# Altium schematic symbol library Schlib.SchLib: 5 symbols
Pins are listed as number, name and electrical type; pins without a type are passive.

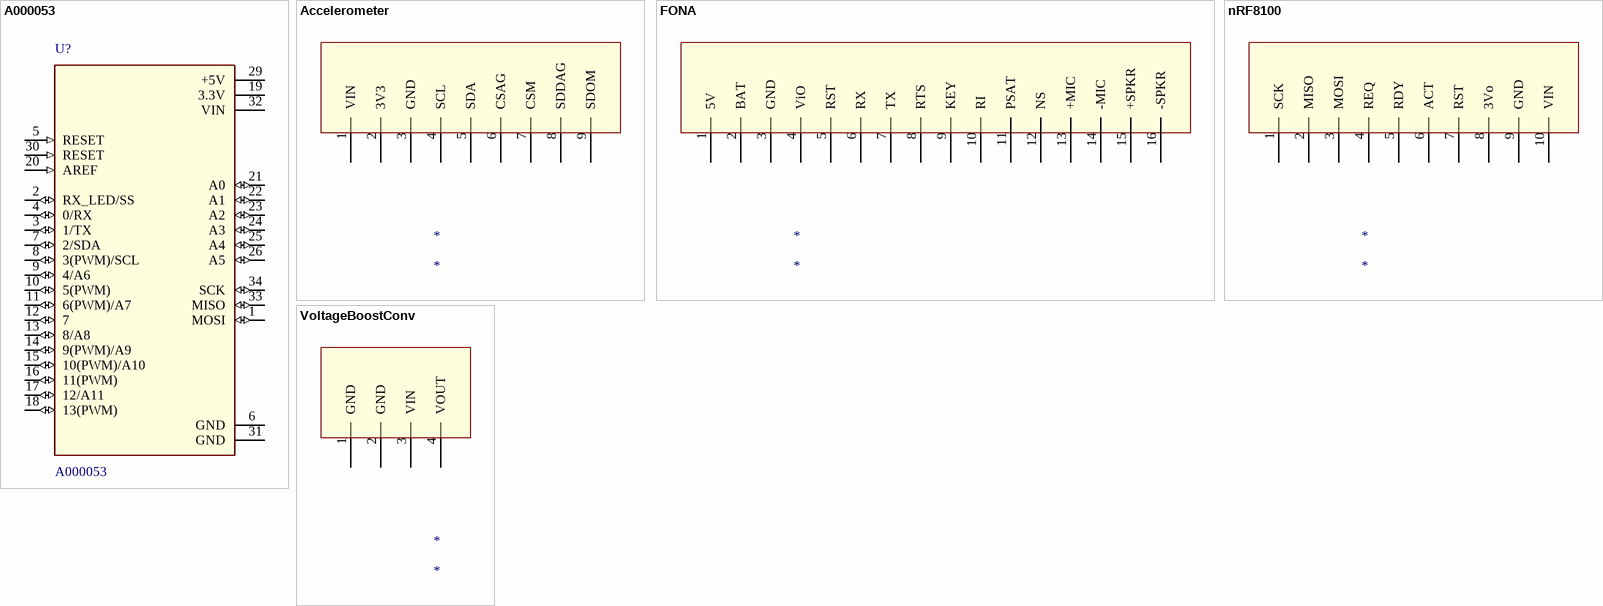
[diagram p0: symbols A000053 to VoltageBoostConv]

## A000053
designator U?
MCU, ARDUINO MICRO, LEONARDO BASED, ATMEGA32u4, 5V, USB-MICRO; Availability: Unavailable; Price: None; SnapEDA_Link: https://www.snapeda.com/parts/A000053/Arduino/view-part/?ref=snap; MF: Arduino; MP: A000053; Package: None; Value: *
footprint *ARDUINO_A000053
pins: 1 MOSI (io), 2 RX_LED/SS (io), 3 1/TX (io), 4 0/RX (io), 5 RESET (in), 6 GND (power), 7 2/SDA (io), 8 3(PWM)/SCL (io), 9 4/A6 (io), 10 5(PWM) (io), 11 6(PWM)/A7 (io), 12 7 (io), 13 8/A8 (io), 14 9(PWM)/A9 (io), 15 10(PWM)/A10 (io), 16 11(PWM) (io), 17 12/A11 (io), 18 13(PWM) (io), 19 3.3V (power), 20 AREF (in), 21 A0 (io), 22 A1 (io), 23 A2 (io), 24 A3 (io), 25 A4 (io), 26 A5 (io), 29 +5V (power), 30 RESET (in), 31 GND (power), 32 VIN (power), 33 MISO (io), 34 SCK (io)

## Accelerometer
designator *
Accelerometer
footprint LSM9DS1
pins: 1 VIN, 2 3V3, 3 GND, 4 SCL, 5 SDA, 6 CSAG, 7 CSM, 8 SDDAG, 9 SDOM

## FONA
designator *
FONA SIM 808
footprint Fona
pins: 1 5V, 2 BAT, 3 GND, 4 ViO, 5 RST, 6 RX, 7 TX, 8 RTS, 9 KEY, 10 RI, 11 PSAT, 12 NS, 13 +MIC, 14 -MIC, 15 +SPKR, 16 -SPKR

## nRF8100
designator *
Bluetooth
footprint nRF8001-AdaFruit
pins: 1 SCK, 2 MISO, 3 MOSI, 4 REQ, 5 RDY, 6 ACT, 7 RST, 8 3Vo, 9 GND, 10 VIN

## VoltageBoostConv
designator *
Accelerometer
footprint VoltageBoostConv
pins: 1 GND, 2 GND, 3 VIN, 4 VOUT